# Altium footprint library Seeed-OPL-ic.PCBLIB: 95 footprints (part 1 of 6)
Each footprint in its own frame and in the unit in brackets; x right, y up, seen from the top. Pads: shape width x height; smd on the part's side, far side on the other; paste and mask are expansions set on the pad; w line width, h text height; cw(c..) or ccw(c..) is an arc to the next point about the centre after c.
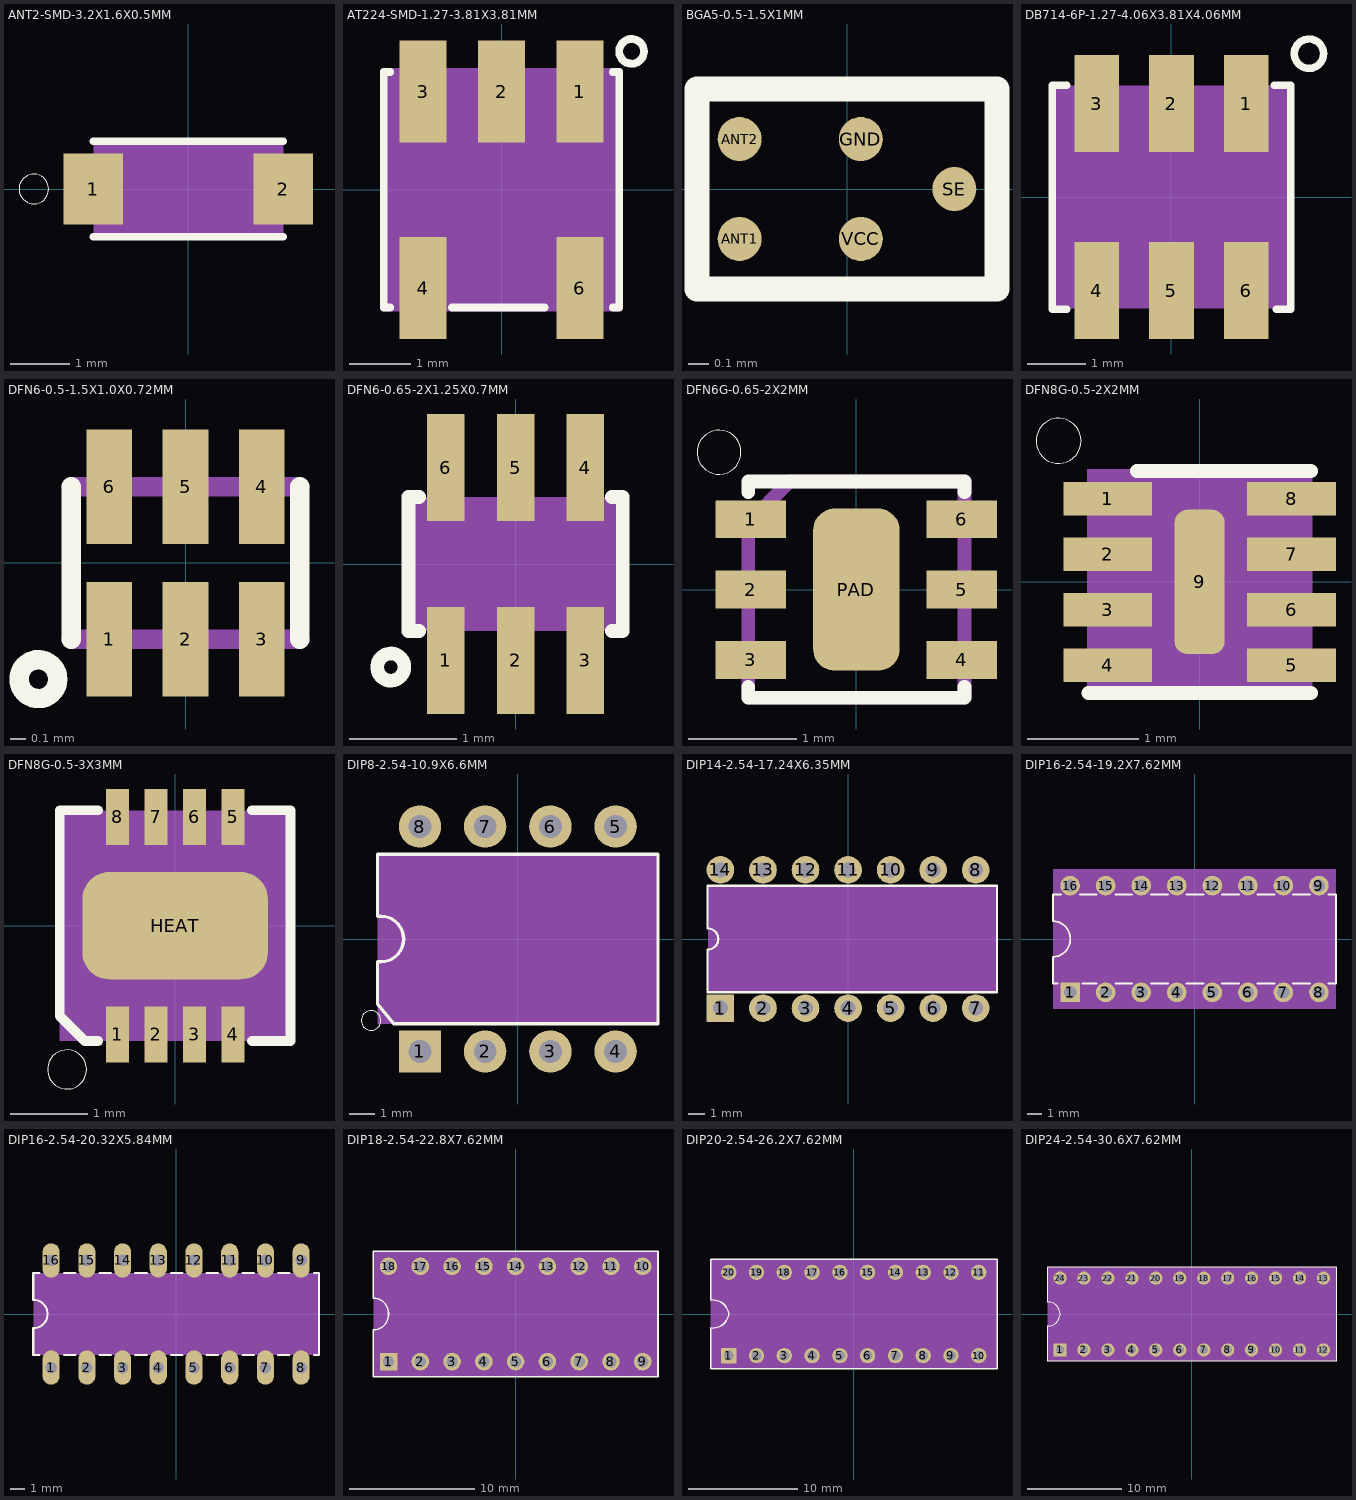
[diagram p0: the footprints below, top view; thin cyan lines are the x and y axes]

## ANT2-SMD-3.2X1.6X0.5MM [mm]
pads (2):
  rect 1x1.2 smd: 1(-1.6,0) 2(1.6,0)
Top Overlay:
  circle w0: c-2.6,0 r0.25
  lines w0.127: -1.6,-0.8 1.6,-0.8 ; -1.6,0.8 1.6,0.8
Mechanical 27:
  rectangle: -1.6,-0.8 1.6,0.8

## AT224-SMD-1.27-3.81X3.81MM [mm]
pads (5):
  rect 0.76x1.65 smd: 1(1.27,1.59) 2(0,1.59) 3(-1.27,1.59) 4(-1.27,-1.59) 6(1.27,-1.59)
Top Overlay:
  circle w0.127: c2.105,2.24 r0.2
  lines w0.127: -1.905,-1.905 -1.905,1.905 -1.8,1.905 ; -1.9,-1.905 -1.8,-1.905 ; -0.8,-1.905 0.7,-1.905 ; 1.8,-1.905 1.9,-1.905 ; 1.8,1.905 1.905,1.905 1.905,-1.905
Mechanical 16:
  lines w0.127: -1.905,-1.905 1.905,-1.905 ; -1.905,1.905 1.905,1.905
Mechanical 27:
  rectangle: -1.905,-1.905 1.905,1.905

## BGA5-0.5-1.5X1MM [mm]
pads (5):
  rrect100% 0.22x0.22 smd: ANT1(-0.537,-0.25) ANT2(-0.537,0.25) GND(0.069,0.25) SE(0.537,0) VCC(0.069,-0.25)
Top Overlay:
  lines w0.127: -0.75,-0.5 0.75,-0.5 0.75,0.5 -0.75,0.5 -0.75,-0.5

## DB714-6P-1.27-4.06X3.81X4.06MM [mm]
pads (6):
  rect 0.76x1.65 smd: 1(1.27,1.59) 2(0,1.59) 3(-1.27,1.59) 4(-1.27,-1.59) 5(0,-1.59) 6(1.27,-1.59)
Top Overlay:
  circle w0.127: c2.34,2.44 r0.25
  lines w0.127: -1.78,-1.905 -2.03,-1.905 -2.03,1.905 -1.78,1.905 ; 1.75,1.905 2.03,1.905 2.03,-1.905 1.78,-1.905
Mechanical 27:
  rectangle: -2,-1.9 2,1.9

## DFN6-0.5-1.5X1.0X0.72MM [mm]
pads (6):
  rect 0.3x0.75 smd: 1(-0.5,-0.5) 2(0,-0.5) 3(0.5,-0.5) 4(0.5,0.5) 5(0,0.5) 6(-0.5,0.5)
Top Overlay:
  circle w0.127: c-0.965,-0.762 r0.127
  lines w0.127: -0.75,-0.5 -0.75,0.5 ; 0.75,-0.5 0.75,0.5
Mechanical 16:
  lines w0.127: -0.75,-0.5 0.75,-0.5 ; -0.75,0.5 0.75,0.5

## DFN6-0.65-2X1.25X0.7MM [mm]
pads (6):
  rect 0.35x1 smd: 1(-0.65,-0.9) 2(0,-0.9) 3(0.65,-0.9) 4(0.65,0.9) 5(0,0.9) 6(-0.65,0.9)
Top Overlay:
  circle w0.127: c-1.165,-0.962 r0.127
  lines w0.127: -0.9,-0.625 -1,-0.625 -1,0.625 -0.9,0.625 ; 0.9,-0.625 1,-0.625 1,0.625 0.9,0.625
Mechanical 27:
  rectangle: -1,-0.625 1,0.625

## DFN6G-0.65-2X2MM [mm]
pads (7):
  rect 0.65x0.35 smd: 1(-0.975,0.65) 2(-0.975,0) 3(-0.975,-0.65) 4(0.975,-0.65) 5(0.975,0) 6(0.975,0.65)
  rrect50% 0.8x1.5 smd: PAD(0,0)
Top Overlay:
  circle w0: c-1.27,1.27 r0.203
  lines w0.127: -1,-0.9 -1,-1 1,-1 1,-0.9 ; -1,0.9 -1,1 1,1 1,0.9
Mechanical 16:
  lines w0.127: -1,-1 -1,0.618 -0.618,1 1,1 1,-1 -1,-1

## DFN8G-0.5-2X2MM [mil]
pads (9):
  rect 31.5x11.81 smd: 1(-32.56,29.53) 2(-32.56,9.84) 3(-32.56,-9.84) 4(-32.56,-29.53) 5(32.56,-29.53) 6(32.56,-9.84) 7(32.56,9.84) 8(32.56,29.53)
  rrect50% 17.72x51.18 smd: 9(0,0)
Top Overlay:
  circle w0: c-50,50 r8
  lines w5: -39.37,-39.37 39.37,-39.37 ; -22.22,39.37 39.37,39.37
Mechanical 27:
  rectangle: -40,-40 40,40

## DFN8G-0.5-3X3MM [mil]
pads (9):
  rect 11.81x28.62 smd: 1(-29.53,-55.65) 2(-9.84,-55.65) 3(9.84,-55.65) 4(29.53,-55.65) 5(29.53,55.65) 6(9.84,55.65) 7(-9.84,55.65) 8(-29.53,55.65)
  rrect50% 95x55 smd: HEAT(0,0)
Top Overlay:
  circle w0: c-55.32,-73.62 r10
  lines w5: -46.25,-59.06 -59.06,-46.25 -59.06,59.06 -39.37,59.06 ; -45.28,-59.06 -39.37,-59.06 ; 39.37,-59.06 59.06,-59.06 59.06,59.06 39.37,59.06
Mechanical 27:
  rectangle: -59.06,-59.06 59.06,59.06

## DIP8-2.54-10.9X6.6MM [mil]
pads (8):
  rect 65x65 hole 35: 1(-150,-172.5)
  round 65 hole 35: 2(-50,-172.5) 3(50,-172.5) 4(150,-172.5) 5(150,172.5) 6(50,172.5) 7(-50,172.5) 8(-150,172.5)
Top Overlay:
  circle w0: c-225,-125 r15
  lines w5: -215,-100 -190,-130 215,-130 215,130 -215,130 -215,35 -210,35 cw(c-210,0) -175,0 cw(c-210,0) -210,-35 -215,-35 -215,-100
Mechanical 27:
  rectangle: -215,-130 215,130

## DIP14-2.54-17.24X6.35MM [mil]
pads (14):
  rect 65x65 hole 35: 1(-300,-162.5)
  round 65 hole 35: 2(-200,-162.5) 3(-100,-162.5) 4(0,-162.5) 5(100,-162.5) 6(200,-162.5) 7(300,-162.5) 8(300,162.5) 9(200,162.5) 10(100,162.5) 11(0,162.5) 12(-100,162.5) 13(-200,162.5) 14(-300,162.5)
Top Overlay:
  lines w5: -330,-125 350,-125 350,125 -330,125 -330,25 cw(c-330,0) -305,0 cw(c-330,0) -330,-25 -330,-125
Mechanical 27:
  rectangle: -328.74,-125 350,125

## DIP16-2.54-19.2X7.62MM [mm]
pads (16):
  rect 1.4x1.4 hole 0.9: 1(-8.89,-3.81)
  round 1.4 hole 0.9: 2(-6.35,-3.81) 3(-3.81,-3.81) 4(-1.27,-3.81) 5(1.27,-3.81) 6(3.81,-3.81) 7(6.35,-3.81) 8(8.89,-3.81) 9(8.89,3.81) 10(6.35,3.81) 11(3.81,3.81) 12(1.27,3.81) 13(-1.27,3.81) 14(-3.81,3.81) 15(-6.35,3.81) 16(-8.89,3.81)
Top Overlay:
  lines w0.127: -9.8,-3.175 -10.11,-3.175 -10.11,-1.27 ccw(c-10.11,-0.05) -8.89,-0.05 -8.89,0.05 ccw(c-10.11,0.05) -10.11,1.27 -10.11,3.175 -9.525,3.175 ; -8.205,3.175 -6.985,3.175 ; -8,-3.175 -6.985,-3.175 ; -5.665,-3.175 -4.445,-3.175 ; -5.665,3.175 -4.445,3.175 ; -3.125,-3.175 -1.905,-3.175 ; -3.125,3.175 -1.905,3.175 ; -0.585,-3.175 0.635,-3.175 ; -0.585,3.175 0.635,3.175 ; 1.955,-3.175 3.175,-3.175 ; 1.955,3.175 3.175,3.175 ; 4.495,-3.175 5.715,-3.175 ; 4.495,3.175 5.715,3.175 ; 7.035,-3.175 8.255,-3.175 ; 7.035,3.175 8.255,3.175 ; 9.575,-3.175 10.11,-3.175 10.11,3.175 9.575,3.175
Mechanical 27:
  rectangle: -10.11,-5 10.11,5

## DIP16-2.54-20.32X5.84MM [mil]
pads (16):
  oval 48x96 hole 32: 1(-350,-150) 2(-250,-150) 3(-150,-150) 4(-50,-150) 5(50,-150) 6(150,-150) 7(250,-150) 8(350,-150) 9(350,150) 10(250,150) 11(150,150) 12(50,150) 13(-50,150) 14(-150,150) 15(-250,150) 16(-350,150)
Top Overlay:
  lines w5: -400,-115 -381.89,-115 ; -400,115 -381.89,115 ; -314.96,-115 -281.89,-115 ; -314.96,115 -281.89,115 ; -214.96,-115 -181.89,-115 ; -214.96,115 -181.89,115 ; -114.96,-115 -81.89,-115 ; -114.96,115 -81.89,115 ; -14.96,-115 18.11,-115 ; -14.96,115 18.11,115 ; 85.04,-115 118.11,-115 ; 85.04,115 118.11,115 ; 185.04,-115 218.11,-115 ; 185.04,115 218.11,115 ; 285.04,-115 318.11,-115 ; 285.04,115 318.11,115 ; 385.83,-115 400,-115 ; 385.83,115 400,115
  lines w6: -400,-115 -400,-40 ccw(c-400,0) -400,40 -400,115 ; 400,-115 400,115
Mechanical 27:
  rectangle: -400,-115 400,115

## DIP18-2.54-22.8X7.62MM [mm]
pads (18):
  rect 1.4x1.4 hole 0.9: 1(-10.16,-3.81)
  round 1.4 hole 0.9: 2(-7.62,-3.81) 3(-5.08,-3.81) 4(-2.54,-3.81) 5(0,-3.81) 6(2.54,-3.81) 7(5.08,-3.81) 8(7.62,-3.81) 9(10.16,-3.81) 10(10.16,3.81) 11(7.62,3.81) 12(5.08,3.81) 13(2.54,3.81) 14(0,3.81) 15(-2.54,3.81) 16(-5.08,3.81) 17(-7.62,3.81) 18(-10.16,3.81)
Top Overlay:
  lines w0.127: -11.38,-5 11.38,-5 11.38,5 -11.38,5 -11.38,1.27 cw(c-11.38,0.05) -10.16,0.05 -10.16,-0.05 cw(c-11.38,-0.05) -11.38,-1.27 -11.38,-5
Mechanical 27:
  rectangle: -11.38,-5 11.38,5

## DIP20-2.54-26.2X7.62MM [mm]
pads (20):
  rect 1.4x1.4 hole 0.9: 1(-11.43,-3.81)
  round 1.4 hole 0.9: 2(-8.89,-3.81) 3(-6.35,-3.81) 4(-3.81,-3.81) 5(-1.27,-3.81) 6(1.27,-3.81) 7(3.81,-3.81) 8(6.35,-3.81) 9(8.89,-3.81) 10(11.43,-3.81) 11(11.43,3.81) 12(8.89,3.81) 13(6.35,3.81) 14(3.81,3.81) 15(1.27,3.81) 16(-1.27,3.81) 17(-3.81,3.81) 18(-6.35,3.81) 19(-8.89,3.81) 20(-11.43,3.81)
Top Overlay:
  lines w0.127: -13.1,-5 13.1,-5 13.1,5 -13.1,5 -13.1,1.27 cw(c-12.875,-0.175) -11.43,0.05 -11.43,-0.05 cw(c-12.875,0.175) -13.1,-1.27 -13.1,-5
Mechanical 27:
  rectangle: -13.1,-5 13.1,5

## DIP24-2.54-30.6X7.62MM [mm]
pads (24):
  rect 1.4x1.4 hole 0.9: 1(-13.97,-3.81)
  round 1.4 hole 0.9: 2(-11.43,-3.81) 3(-8.89,-3.81) 4(-6.35,-3.81) 5(-3.81,-3.81) 6(-1.27,-3.81) 7(1.27,-3.81) 8(3.81,-3.81) 9(6.35,-3.81) 10(8.89,-3.81) 11(11.43,-3.81) 12(13.97,-3.81) 13(13.97,3.81) 14(11.43,3.81) 15(8.89,3.81) 16(6.35,3.81) 17(3.81,3.81) 18(1.27,3.81) 19(-1.27,3.81) 20(-3.81,3.81) 21(-6.35,3.81) 22(-8.89,3.81) 23(-11.43,3.81) 24(-13.97,3.81)
Top Overlay:
  lines w0.127: -15.3,-5 15.3,-5 15.3,5 -15.3,5 -15.3,1.27 cw(c-15.245,-0.005) -13.97,0.05 -13.97,-0.05 cw(c-15.245,0.005) -15.3,-1.27 -15.3,-5
Mechanical 27:
  rectangle: -15.3,-5 15.3,5